# Altium schematic symbol library 2.54排针排母.SchLib: 60 symbols
Pins are listed as number, name and electrical type; pins without a type are passive.

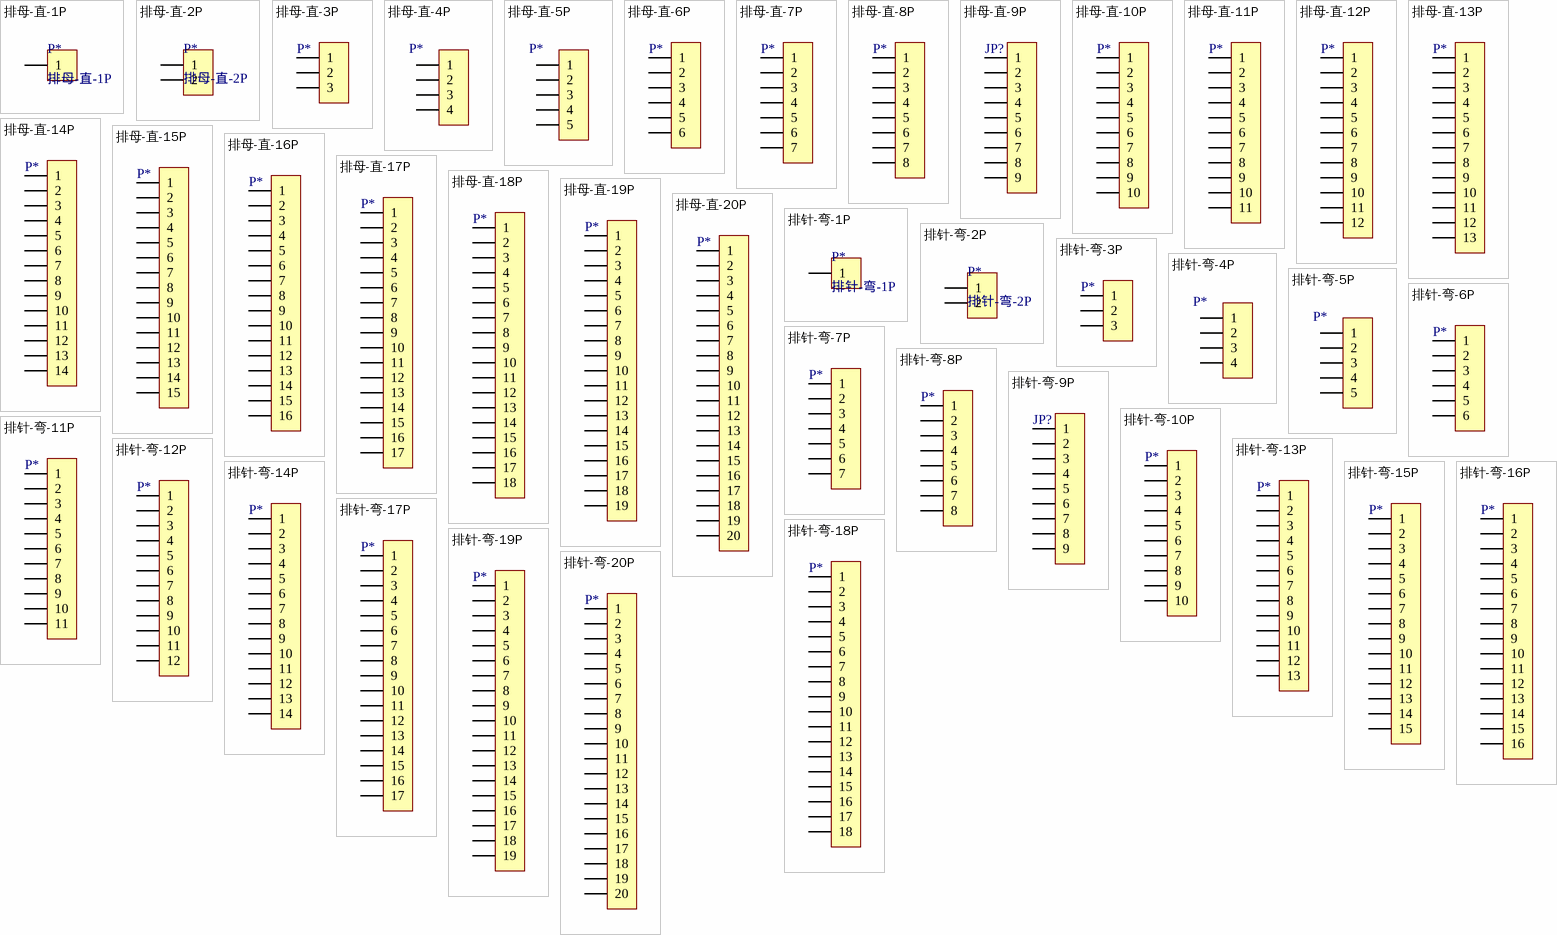
[diagram p0: symbols 排母-直-1P to 排针-弯-20P]

## 排母-直-1P
designator P*
footprint HDR2.54-M-LI-1P (排母，1脚   淘宝ID:黄晶宝石   店铺网址:https://shop463601444.taobao.com)
pins: 1

## 排母-直-2P
designator P*
footprint HDR2.54-M-LI-2P (排母，2脚    淘宝ID:黄晶宝石   店铺网址:https://shop463601444.taobao.com)
pins: 1, 2

## 排母-直-3P
designator P*  (value not drawn)
BOM名称: 3P接插件; 版权归属: 封装库来自淘宝 ID：黄晶宝石; 学习资源: https://shop463601444.taobao.com
footprint HDR2.54-M-LI-3P (排母，3脚   淘宝ID:黄晶宝石   店铺网址:https://shop463601444.taobao.com)
pins: 1, 2, 3

## 排母-直-4P
designator P*  (value not drawn)
BOM名称: 4P接插件; 版权归属: 封装库来自淘宝 ID：黄晶宝石; 学习资源: https://shop463601444.taobao.com
footprint HDR2.54-M-LI-4P (排母，4脚  淘宝ID:黄晶宝石   店铺网址:https://shop463601444.taobao.com)
pins: 1, 2, 3, 4

## 排母-直-5P
designator P*  (value not drawn)
BOM名称: 5P接插件; 版权归属: 封装库来自淘宝 ID：黄晶宝石; 学习资源: https://shop463601444.taobao.com
footprint HDR2.54-M-LI-5P (排母，5脚   淘宝ID:黄晶宝石   店铺网址:https://shop463601444.taobao.com)
pins: 1, 2, 3, 4, 5

## 排母-直-6P
designator P*  (value not drawn)
BOM名称: 6P接插件; 版权归属: 封装库来自淘宝 ID：黄晶宝石; 学习资源: https://shop463601444.taobao.com
footprint HDR2.54-M-LI-6P (排母，6脚  淘宝ID:黄晶宝石   店铺网址:https://shop463601444.taobao.com)
pins: 1, 2, 3, 4, 5, 6

## 排母-直-7P
designator P*  (value not drawn)
BOM名称: 7P接插件; 版权归属: 封装库来自淘宝 ID：黄晶宝石; 学习资源: https://shop463601444.taobao.com
footprint HDR2.54-M-LI-7P (排母，7脚)
pins: 1, 2, 3, 4, 5, 6, 7

## 排母-直-8P
designator P*  (value not drawn)
BOM名称: 8P接插件; 版权归属: 封装库来自淘宝 ID：黄晶宝石; 学习资源: https://shop463601444.taobao.com
footprint HDR2.54-M-LI-8P (排母，8脚)
pins: 1, 2, 3, 4, 5, 6, 7, 8

## 排母-直-9P
designator JP?  (value not drawn)
BOM名称: 9P接插件; 学习资源: 淘宝ID:黄晶宝石; 版权归属: https://shop463601444.taobao.com
footprint HDR2.54-M-LI-9P (排母，9脚 淘宝ID:黄晶宝石   店铺网址:https://shop463601444.taobao.com)
pins: 1, 2, 3, 4, 5, 6, 7, 8, 9

## 排母-直-10P
designator P*  (value not drawn)
BOM名称: 10P接插件; 版权归属: 淘宝ID:黄晶宝石; 学习资源: https://shop463601444.taobao.com
footprint HDR2.54-M-LI-10P (排母，10脚)
pins: 1, 2, 3, 4, 5, 6, 7, 8, 9, 10

## 排母-直-11P
designator P*  (value not drawn)
BOM名称: 11P接插件; 版权归属: 封装库来自淘宝卖家 ID：黄晶宝石; 学习资源: https://shop463601444.taobao.com
footprint HDR2.54-M-LI-11P (排母，11脚)
pins: 1, 2, 3, 4, 5, 6, 7, 8, 9, 10, 11

## 排母-直-12P
designator P*  (value not drawn)
BOM名称: 12P接插件; 版权归属: 封装库来自淘宝卖家 ID：黄晶宝石; 学习资源: https://shop463601444.taobao.com
footprint HDR2.54-M-LI-12P (排母，12脚)
pins: 1, 2, 3, 4, 5, 6, 7, 8, 9, 10, 11, 12

## 排母-直-13P
designator P*  (value not drawn)
BOM名称: 13P接插件; 版权归属: 封装库来自淘宝卖家 ID：黄晶宝石; 学习资源: https://shop463601444.taobao.com
footprint HDR2.54-M-LI-13P (排母，13脚)
pins: 1, 2, 3, 4, 5, 6, 7, 8, 9, 10, 11, 12, 13

## 排母-直-14P
designator P*  (value not drawn)
BOM名称: 14P接插件; 版权归属: 封装库来自淘宝卖家 ID：黄晶宝石; 学习资源: https://shop463601444.taobao.com
footprint HDR2.54-M-LI-14P (排母，14脚)
pins: 1, 2, 3, 4, 5, 6, 7, 8, 9, 10, 11, 12, 13, 14

## 排母-直-15P
designator P*  (value not drawn)
BOM名称: 15P接插件; 版权归属: 源创客; 学习资源: www.ooocke.com
footprint HDR2.54-M-LI-15P (排母，15脚)
pins: 1, 2, 3, 4, 5, 6, 7, 8, 9, 10, 11, 12, 13, 14, 15

## 排母-直-16P
designator P*  (value not drawn)
BOM名称: 16P接插件; 版权归属: 封装库来自淘宝卖家 ID：黄晶宝石; 学习资源: https://shop463601444.taobao.com
footprint HDR2.54-M-LI-16P (排母，16脚)
pins: 1, 2, 3, 4, 5, 6, 7, 8, 9, 10, 11, 12, 13, 14, 15, 16

## 排母-直-17P
designator P*  (value not drawn)
BOM名称: 17P接插件; 版权归属: 封装库来自淘宝卖家 ID：黄晶宝石; 学习资源: https://shop463601444.taobao.com
footprint HDR2.54-M-LI-17P (排母，17脚)
pins: 1, 2, 3, 4, 5, 6, 7, 8, 9, 10, 11, 12, 13, 14, 15, 16, 17

## 排母-直-18P
designator P*  (value not drawn)
BOM名称: 18P接插件; 版权归属: 封装库来自淘宝 ID：黄晶宝石; 学习资源: https://shop463601444.taobao.com
footprint HDR2.54-M-LI-18P (排母，18脚)
pins: 1, 2, 3, 4, 5, 6, 7, 8, 9, 10, 11, 12, 13, 14, 15, 16, 17, 18

## 排母-直-19P
designator P*  (value not drawn)
BOM名称: 19P接插件; 版权归属: 封装库来自淘宝 ID：黄晶宝石; 学习资源: https://shop463601444.taobao.com
footprint HDR2.54-M-LI-19P (排母，19脚  淘宝ID:黄晶宝石   店铺网址:https://shop463601444.taobao.com)
pins: 1, 2, 3, 4, 5, 6, 7, 8, 9, 10, 11, 12, 13, 14, 15, 16, 17, 18, 19

## 排母-直-20P
designator P*  (value not drawn)
BOM名称: 20P接插件; 版权归属: 封装库来自淘宝 ID：黄晶宝石; 学习资源: https://shop463601444.taobao.com
footprint HDR2.54-M-LI-20P (排母，20脚)
pins: 1, 2, 3, 4, 5, 6, 7, 8, 9, 10, 11, 12, 13, 14, 15, 16, 17, 18, 19, 20

## 排针-弯-1P
designator P*
footprint HDR2.54-WI-1P (弯脚排针，1脚   淘宝ID:黄晶宝石   店铺网址:https://shop463601444.taobao.com)
pins: 1

## 排针-弯-2P
designator P*
footprint HDR2.54-WI-2P (弯脚排针，2脚    淘宝ID:黄晶宝石   店铺网址:https://shop463601444.taobao.com)
pins: 1, 2

## 排针-弯-3P
designator P*  (value not drawn)
BOM名称: 3P接插件; 版权归属: 封装库来自淘宝 ID：黄晶宝石; 学习资源: https://shop463601444.taobao.com
footprint HDR2.54-WI-3P (弯脚排针，3脚)
pins: 1, 2, 3

## 排针-弯-4P
designator P*  (value not drawn)
BOM名称: 4P接插件; 版权归属: 封装库来自淘宝 ID：黄晶宝石; 学习资源: https://shop463601444.taobao.com
footprint HDR2.54-WI-4P (弯脚排针，4脚)
pins: 1, 2, 3, 4

## 排针-弯-5P
designator P*  (value not drawn)
BOM名称: 5P接插件; 版权归属: 封装库来自淘宝 ID：黄晶宝石; 学习资源: https://shop463601444.taobao.com
footprint HDR2.54-WI-5P (弯脚排针，5脚)
pins: 1, 2, 3, 4, 5

## 排针-弯-6P
designator P*  (value not drawn)
BOM名称: 6P接插件; 版权归属: 封装库来自淘宝 ID：黄晶宝石; 学习资源: https://shop463601444.taobao.com
footprint HDR2.54-WI-6P (弯脚排针，6脚)
pins: 1, 2, 3, 4, 5, 6

## 排针-弯-7P
designator P*  (value not drawn)
BOM名称: 7P接插件; 版权归属: 封装库来自淘宝 ID：黄晶宝石; 学习资源: https://shop463601444.taobao.com
footprint HDR2.54-WI-7P (弯脚排针，7脚)
pins: 1, 2, 3, 4, 5, 6, 7

## 排针-弯-8P
designator P*  (value not drawn)
BOM名称: 8P接插件; 版权归属: 封装库来自淘宝 ID：黄晶宝石; 学习资源: https://shop463601444.taobao.com
footprint HDR2.54-WI-8P (弯脚排针，8脚)
pins: 1, 2, 3, 4, 5, 6, 7, 8

## 排针-弯-9P
designator JP?  (value not drawn)
BOM名称: 9P接插件; 学习资源: 淘宝ID:黄晶宝石; 版权归属: https://shop463601444.taobao.com
footprint HDR2.54-WI-9P (弯脚排针，9脚)
pins: 1, 2, 3, 4, 5, 6, 7, 8, 9

## 排针-弯-10P
designator P*  (value not drawn)
BOM名称: 10P接插件; 版权归属: 淘宝ID:黄晶宝石; 学习资源: https://shop463601444.taobao.com
footprint HDR2.54-WI-10P (弯脚排针，10脚)
pins: 1, 2, 3, 4, 5, 6, 7, 8, 9, 10

## 排针-弯-11P
designator P*  (value not drawn)
BOM名称: 11P接插件; 版权归属: 封装库来自淘宝卖家 ID：黄晶宝石; 学习资源: https://shop463601444.taobao.com
footprint HDR2.54-WI-11P (弯脚排针，11脚)
pins: 1, 2, 3, 4, 5, 6, 7, 8, 9, 10, 11

## 排针-弯-12P
designator P*  (value not drawn)
BOM名称: 12P接插件; 版权归属: 封装库来自淘宝卖家 ID：黄晶宝石; 学习资源: https://shop463601444.taobao.com
footprint HDR2.54-WI-12P (弯脚排针，12脚)
pins: 1, 2, 3, 4, 5, 6, 7, 8, 9, 10, 11, 12

## 排针-弯-13P
designator P*  (value not drawn)
BOM名称: 13P接插件; 版权归属: 封装库来自淘宝卖家 ID：黄晶宝石; 学习资源: https://shop463601444.taobao.com
footprint HDR2.54-WI-13P (弯脚排针，13脚)
pins: 1, 2, 3, 4, 5, 6, 7, 8, 9, 10, 11, 12, 13

## 排针-弯-14P
designator P*  (value not drawn)
BOM名称: 14P接插件; 版权归属: 封装库来自淘宝卖家 ID：黄晶宝石; 学习资源: https://shop463601444.taobao.com
footprint HDR2.54-WI-14P (弯脚排针，14脚)
pins: 1, 2, 3, 4, 5, 6, 7, 8, 9, 10, 11, 12, 13, 14

## 排针-弯-15P
designator P*  (value not drawn)
BOM名称: 15P接插件; 版权归属: 源创客; 学习资源: www.ooocke.com
footprint HDR2.54-WI-15P (弯脚排针，15脚  淘宝ID:黄晶宝石   店铺网址:https://shop463601444.taobao.com)
pins: 1, 2, 3, 4, 5, 6, 7, 8, 9, 10, 11, 12, 13, 14, 15

## 排针-弯-16P
designator P*  (value not drawn)
BOM名称: 16P接插件; 版权归属: 封装库来自淘宝卖家 ID：黄晶宝石; 学习资源: https://shop463601444.taobao.com
footprint HDR2.54-WI-16P (弯脚排针，16脚)
pins: 1, 2, 3, 4, 5, 6, 7, 8, 9, 10, 11, 12, 13, 14, 15, 16

## 排针-弯-17P
designator P*  (value not drawn)
BOM名称: 17P接插件; 版权归属: 封装库来自淘宝卖家 ID：黄晶宝石; 学习资源: https://shop463601444.taobao.com
footprint HDR2.54-WI-17P (弯脚排针，17脚)
pins: 1, 2, 3, 4, 5, 6, 7, 8, 9, 10, 11, 12, 13, 14, 15, 16, 17

## 排针-弯-18P
designator P*  (value not drawn)
BOM名称: 18P接插件; 版权归属: 封装库来自淘宝 ID：黄晶宝石; 学习资源: https://shop463601444.taobao.com
footprint HDR2.54-WI-18P (弯脚排针，18脚)
pins: 1, 2, 3, 4, 5, 6, 7, 8, 9, 10, 11, 12, 13, 14, 15, 16, 17, 18

## 排针-弯-19P
designator P*  (value not drawn)
BOM名称: 19P接插件; 版权归属: 封装库来自淘宝 ID：黄晶宝石; 学习资源: https://shop463601444.taobao.com
footprint HDR2.54-WI-19P (弯脚排针，19脚)
pins: 1, 2, 3, 4, 5, 6, 7, 8, 9, 10, 11, 12, 13, 14, 15, 16, 17, 18, 19

## 排针-弯-20P
designator P*  (value not drawn)
BOM名称: 20P接插件; 版权归属: 封装库来自淘宝 ID：黄晶宝石; 学习资源: https://shop463601444.taobao.com
footprint HDR2.54-WI-20P (弯脚排针，20脚)
pins: 1, 2, 3, 4, 5, 6, 7, 8, 9, 10, 11, 12, 13, 14, 15, 16, 17, 18, 19, 20

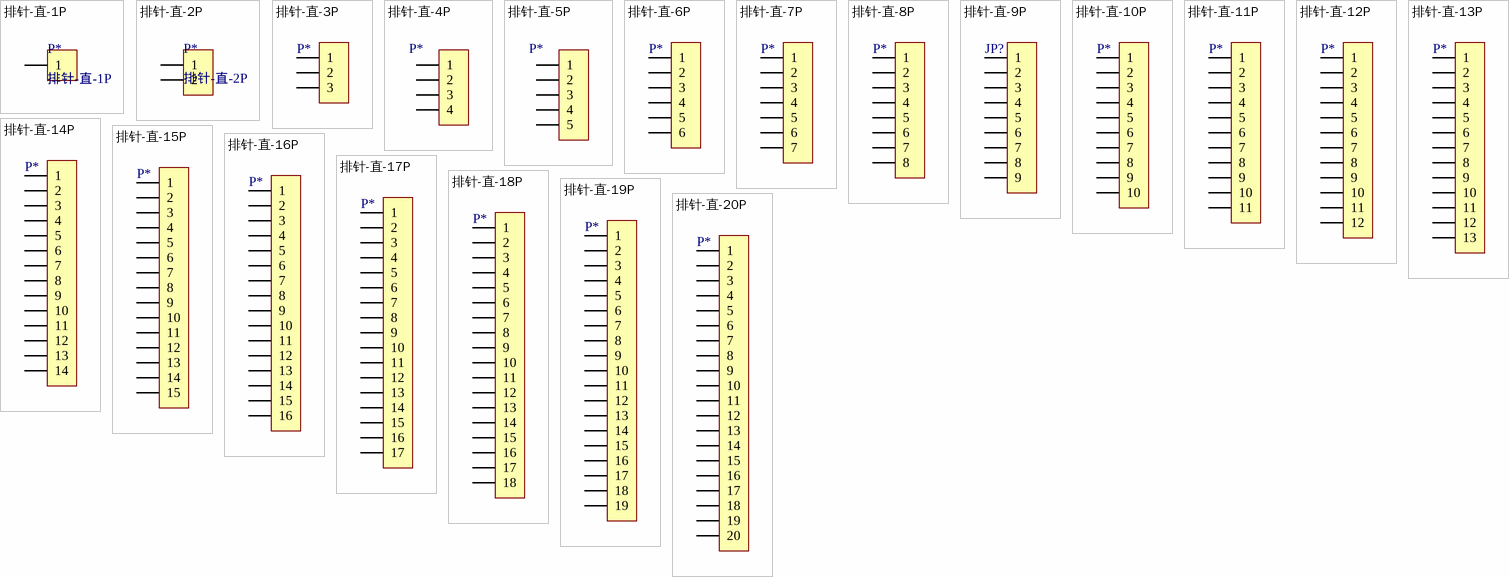
[diagram p1: symbols 排针-直-1P to 排针-直-20P]

## 排针-直-1P
designator P*
footprint HDR2.54-LI-1P (封装库来自淘宝卖家 ID：黄晶宝石)
pins: 1

## 排针-直-2P
designator P*
footprint HDR2.54-LI-2P (封装库来自淘宝卖家 ID：黄晶宝石)
pins: 1, 2

## 排针-直-3P
designator P*  (value not drawn)
BOM名称: 3P接插件; 版权归属: 封装库来自淘宝 ID：黄晶宝石; 学习资源: https://shop463601444.taobao.com
footprint HDR2.54-LI-3P
pins: 1, 2, 3

## 排针-直-4P
designator P*  (value not drawn)
BOM名称: 4P接插件; 版权归属: 封装库来自淘宝 ID：黄晶宝石; 学习资源: https://shop463601444.taobao.com
footprint HDR2.54-LI-4P (排针，4脚)
pins: 1, 2, 3, 4

## 排针-直-5P
designator P*  (value not drawn)
BOM名称: 5P接插件; 版权归属: 封装库来自淘宝 ID：黄晶宝石; 学习资源: https://shop463601444.taobao.com
footprint HDR2.54-LI-5P (排针，5脚)
pins: 1, 2, 3, 4, 5

## 排针-直-6P
designator P*  (value not drawn)
BOM名称: 6P接插件; 版权归属: 封装库来自淘宝 ID：黄晶宝石; 学习资源: https://shop463601444.taobao.com
footprint HDR2.54-LI-6P (排针，6脚)
pins: 1, 2, 3, 4, 5, 6

## 排针-直-7P
designator P*  (value not drawn)
BOM名称: 7P接插件; 版权归属: 封装库来自淘宝 ID：黄晶宝石; 学习资源: https://shop463601444.taobao.com
footprint HDR2.54-LI-7P (排针，8脚)
pins: 1, 2, 3, 4, 5, 6, 7

## 排针-直-8P
designator P*  (value not drawn)
BOM名称: 8P接插件; 版权归属: 封装库来自淘宝 ID：黄晶宝石; 学习资源: https://shop463601444.taobao.com
footprint HDR2.54-LI-8P (排针，8脚  淘宝ID:黄晶宝石   店铺网址:https://shop463601444.taobao.com)
pins: 1, 2, 3, 4, 5, 6, 7, 8

## 排针-直-9P
designator JP?  (value not drawn)
BOM名称: 9P接插件; 学习资源: 淘宝ID:黄晶宝石; 版权归属: https://shop463601444.taobao.com
footprint HDR2.54-LI-9P (排针，9脚)
pins: 1, 2, 3, 4, 5, 6, 7, 8, 9

## 排针-直-10P
designator P*  (value not drawn)
BOM名称: 10P接插件; 版权归属: 淘宝ID:黄晶宝石; 学习资源: https://shop463601444.taobao.com
footprint HDR2.54-LI-10P (排针，10脚   淘宝ID:黄晶宝石   店铺网址:https://shop463601444.taobao.com)
pins: 1, 2, 3, 4, 5, 6, 7, 8, 9, 10

## 排针-直-11P
designator P*  (value not drawn)
BOM名称: 11P接插件; 版权归属: 封装库来自淘宝卖家 ID：黄晶宝石; 学习资源: https://shop463601444.taobao.com
footprint HDR2.54-LI-11P (排针)
pins: 1, 2, 3, 4, 5, 6, 7, 8, 9, 10, 11

## 排针-直-12P
designator P*  (value not drawn)
BOM名称: 12P接插件; 版权归属: 封装库来自淘宝卖家 ID：黄晶宝石; 学习资源: https://shop463601444.taobao.com
footprint HDR2.54-LI-12P (排针，13脚)
pins: 1, 2, 3, 4, 5, 6, 7, 8, 9, 10, 11, 12

## 排针-直-13P
designator P*  (value not drawn)
BOM名称: 13P接插件; 版权归属: 封装库来自淘宝卖家 ID：黄晶宝石; 学习资源: https://shop463601444.taobao.com
footprint HDR2.54-LI-13P (排针，13脚)
pins: 1, 2, 3, 4, 5, 6, 7, 8, 9, 10, 11, 12, 13

## 排针-直-14P
designator P*  (value not drawn)
BOM名称: 14P接插件; 版权归属: 封装库来自淘宝卖家 ID：黄晶宝石; 学习资源: https://shop463601444.taobao.com
footprint HDR2.54-LI-14P (排针，14脚)
pins: 1, 2, 3, 4, 5, 6, 7, 8, 9, 10, 11, 12, 13, 14

## 排针-直-15P
designator P*  (value not drawn)
BOM名称: 15P接插件; 版权归属: 源创客; 学习资源: www.ooocke.com
footprint HDR2.54-LI-15P (排针，15脚)
pins: 1, 2, 3, 4, 5, 6, 7, 8, 9, 10, 11, 12, 13, 14, 15

## 排针-直-16P
designator P*  (value not drawn)
BOM名称: 16P接插件; 版权归属: 封装库来自淘宝卖家 ID：黄晶宝石; 学习资源: https://shop463601444.taobao.com
footprint HDR2.54-LI-16P (排针，16脚)
pins: 1, 2, 3, 4, 5, 6, 7, 8, 9, 10, 11, 12, 13, 14, 15, 16

## 排针-直-17P
designator P*  (value not drawn)
BOM名称: 17P接插件; 版权归属: 封装库来自淘宝卖家 ID：黄晶宝石; 学习资源: https://shop463601444.taobao.com
footprint HDR2.54-LI-17P (排针，17脚)
pins: 1, 2, 3, 4, 5, 6, 7, 8, 9, 10, 11, 12, 13, 14, 15, 16, 17

## 排针-直-18P
designator P*  (value not drawn)
BOM名称: 18P接插件; 版权归属: 封装库来自淘宝 ID：黄晶宝石; 学习资源: https://shop463601444.taobao.com
footprint HDR2.54-LI-18P (排针，18脚)
pins: 1, 2, 3, 4, 5, 6, 7, 8, 9, 10, 11, 12, 13, 14, 15, 16, 17, 18

## 排针-直-19P
designator P*  (value not drawn)
BOM名称: 19P接插件; 版权归属: 封装库来自淘宝 ID：黄晶宝石; 学习资源: https://shop463601444.taobao.com
footprint HDR2.54-LI-19P (排针，19脚)
pins: 1, 2, 3, 4, 5, 6, 7, 8, 9, 10, 11, 12, 13, 14, 15, 16, 17, 18, 19

## 排针-直-20P
designator P*  (value not drawn)
BOM名称: 20P接插件; 版权归属: 封装库来自淘宝 ID：黄晶宝石; 学习资源: https://shop463601444.taobao.com
footprint HDR2.54-LI-20P (排针，20脚)
pins: 1, 2, 3, 4, 5, 6, 7, 8, 9, 10, 11, 12, 13, 14, 15, 16, 17, 18, 19, 20